# EAGLE library part MEGA2560 (library ioshub)
Layout board Arduino mega 2560
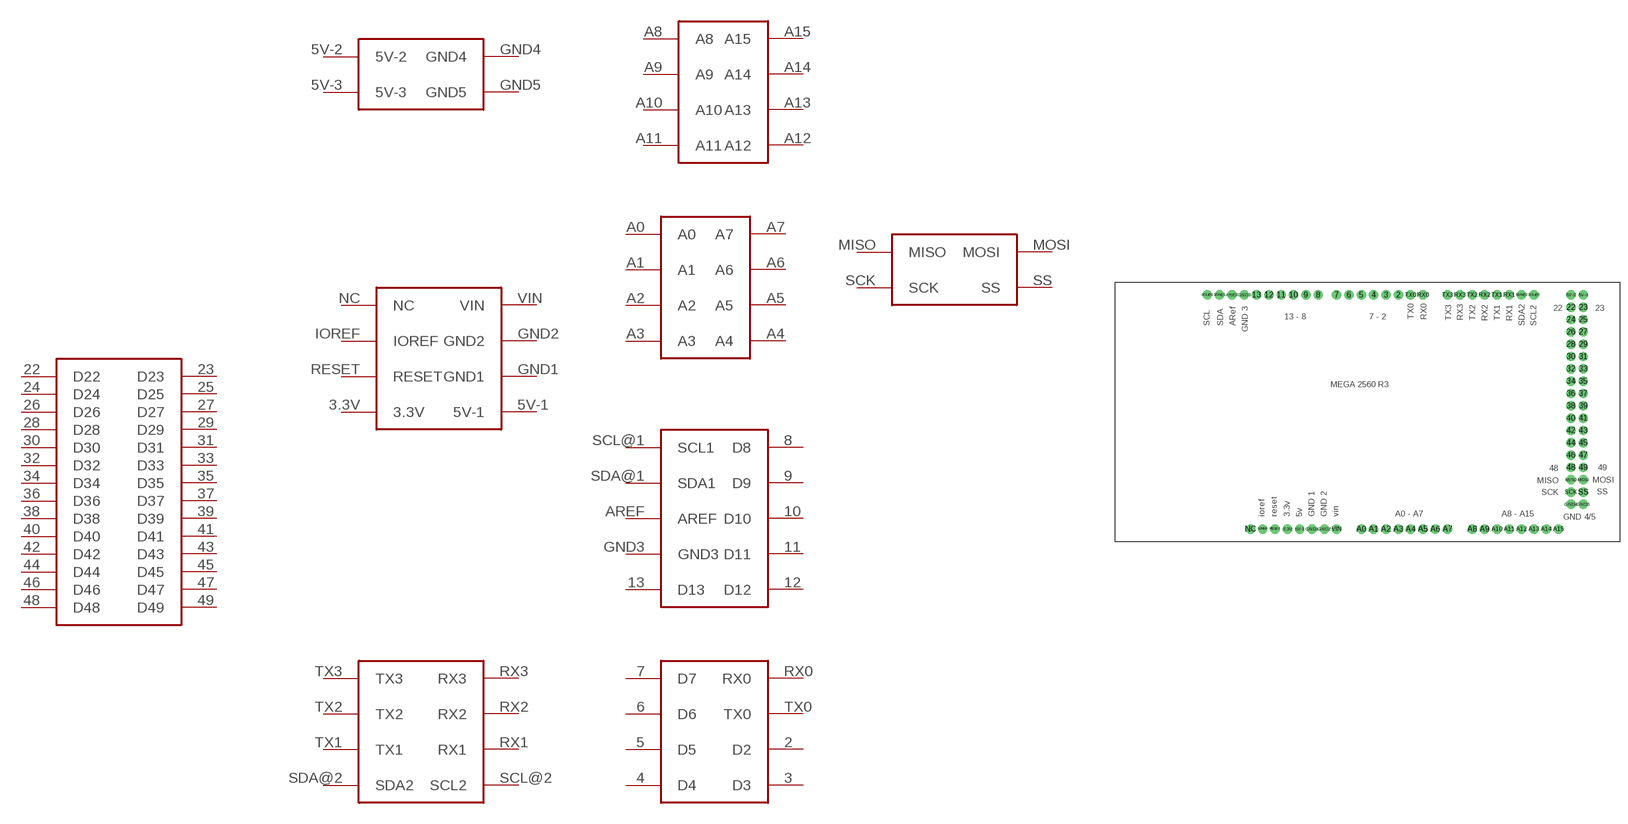
[diagram p9: symbol with the pads of MEGA2560; footprint MEGA2560]

Designator prefix -; gates G$1=M-POWER G$2=M-ANALOG-A G$3=M-DIGITAL-MAIN G$4=M-ADDITIONAL-POWER G$5=M-ANALOG-B G$6=M-COMMS G$7=M-DIGITAL-ADDITIONAL G$8=M-SPI G$9=MEGA-DIGITAL-EDGE

## MEGA2560001  [MEGA2560]
2  G$7:D2
3  G$7:D3
3.3V  G$1:3.3V
4  G$7:D4
5  G$7:D5
5V-1  G$1:5V-1
5V-2  G$4:5V-2
5V-3  G$4:5V-3
6  G$7:D6
7  G$7:D7
8  G$3:D8
9  G$3:D9
10  G$3:D10
11  G$3:D11
12  G$3:D12
13  G$3:D13
22  G$9:D22
23  G$9:D23
24  G$9:D24
25  G$9:D25
26  G$9:D26
27  G$9:D27
28  G$9:D28
29  G$9:D29
30  G$9:D30
31  G$9:D31
32  G$9:D32
33  G$9:D33
34  G$9:D34
35  G$9:D35
36  G$9:D36
37  G$9:D37
38  G$9:D38
39  G$9:D39
40  G$9:D40
41  G$9:D41
42  G$9:D42
43  G$9:D43
44  G$9:D44
45  G$9:D45
46  G$9:D46
47  G$9:D47
48  G$9:D48
49  G$9:D49
A0  G$2:A0
A1  G$2:A1
A2  G$2:A2
A3  G$2:A3
A4  G$2:A4
A5  G$2:A5
A6  G$2:A6
A7  G$2:A7
A8  G$5:A8
A9  G$5:A9
A10  G$5:A10
A11  G$5:A11
A12  G$5:A12
A13  G$5:A13
A14  G$5:A14
A15  G$5:A15
AREF  G$3:AREF
GND1  G$1:GND1
GND2  G$1:GND2
GND3  G$3:GND3
GND4  G$4:GND4
GND5  G$4:GND5
IOREF  G$1:IOREF
MISO  G$8:MISO
MOSI  G$8:MOSI
NC  G$1:NC
RESET  G$1:RESET
RX0  G$7:RX0
RX1  G$6:RX1
RX2  G$6:RX2
RX3  G$6:RX3
SCK  G$8:SCK
SCL@1  G$3:SCL1
SCL@2  G$6:SCL2
SDA@1  G$3:SDA1
SDA@2  G$6:SDA2
SS  G$8:SS
TX0  G$7:TX0
TX1  G$6:TX1
TX2  G$6:TX2
TX3  G$6:TX3
VIN  G$1:VIN

## Footprint MEGA2560 (pad centres in mm)
Layout board Arduino mega 2560
drill 1 pad 1.93: 2 7.62,21.59; 3 5.08,21.59; 3.3V -15.24,-26.67; 4 2.54,21.59; 5 0,21.59; 5V-1 -12.7,-26.67; 5V-2 43.18,21.59; 5V-3 45.72,21.59; 6 -2.54,21.59; 7 -5.08,21.59; 8 -8.89,21.59; 9 -11.43,21.59; 10 -13.97,21.59; 11 -16.51,21.59; 12 -19.05,21.59; 13 -21.59,21.59; 22 43.18,19.05; 23 45.72,19.05; 24 43.18,16.51; 25 45.72,16.51; 26 43.18,13.97; 27 45.72,13.97; 28 43.18,11.43; 29 45.72,11.43; 30 43.18,8.89; 31 45.72,8.89; 32 43.18,6.35; 33 45.72,6.35; 34 43.18,3.81; 35 45.72,3.81; 36 43.18,1.27; 37 45.72,1.27; 38 43.18,-1.27; 39 45.72,-1.27; 40 43.18,-3.81; 41 45.72,-3.81; 42 43.18,-6.35; 43 45.72,-6.35; 44 43.18,-8.89; 45 45.72,-8.89; 46 43.18,-11.43; 47 45.72,-11.43; 48 43.18,-13.97; 49 45.72,-13.97; A0 0,-26.67; A1 2.54,-26.67; A2 5.08,-26.67; A3 7.62,-26.67; A4 10.16,-26.67; A5 12.7,-26.67; A6 15.24,-26.67; A7 17.78,-26.67; A8 22.86,-26.67; A9 25.4,-26.67; A10 27.94,-26.67; A11 30.48,-26.67; A12 33.02,-26.67; A13 35.56,-26.67; A14 38.1,-26.67; A15 40.64,-26.67; AREF -26.67,21.59; GND1 -10.16,-26.67; GND2 -7.62,-26.67; GND3 -24.13,21.59; GND4 43.18,-21.59; GND5 45.72,-21.59; IOREF -20.32,-26.67; MISO 43.18,-16.51; MOSI 45.72,-16.51; NC -22.86,-26.67; RESET -17.78,-26.67; RX0 12.7,21.59; RX1 30.48,21.59; RX2 25.4,21.59; RX3 20.32,21.59; SCK 43.18,-19.05; SCL@1 -31.75,21.59; SCL@2 35.56,21.59; SDA@1 -29.21,21.59; SDA@2 33.02,21.59; SS 45.72,-19.05; TX0 10.16,21.59; TX1 27.94,21.59; TX2 22.86,21.59; TX3 17.78,21.59; VIN -5.08,-26.67